# Altium schematic symbol library Wurth_Electronics_7445720.SchLib: 1 symbol
Pins are listed as number, name and electrical type; pins without a type are passive.

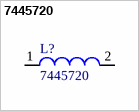
[diagram p0: symbol 7445720]

## 7445720
designator L?
SMD-Power Inductor WE-PD4, L = 100 µH; Inductance: 100 ÂµH; ComponentLink1Description: Manufacturer Link; ComponentLink2Description: Datasheet; DatasheetVersion: ver 1, Oct-2004; ComponentLink1URL: http://www.we-online.com; PackageVersion: 2004; PackageDescription: SMD Inductor, 2-Leads, Body 22.0 x 15.0 mm; ComponentLink2URL: http://www.we-online.de/katalog/media/pdf/7445720.pdf; PackageReference: WE-PD4-XL; PartNumber: 7445720
footprint WE-PD4-XL
footprint WE-PD4-XL (SMD Inductor, 2-Leads, Body 22.0 x 15.0 mm)
footprint Model Name (Footprint not found)
pins: 1, 2